# EAGLE library part IC_TSSOP_WB16 (library solderlessPCB v164)
10.8-V, 2-A dual H-bridge motor driver with current regulation 16-HTSSOP -40 to 85
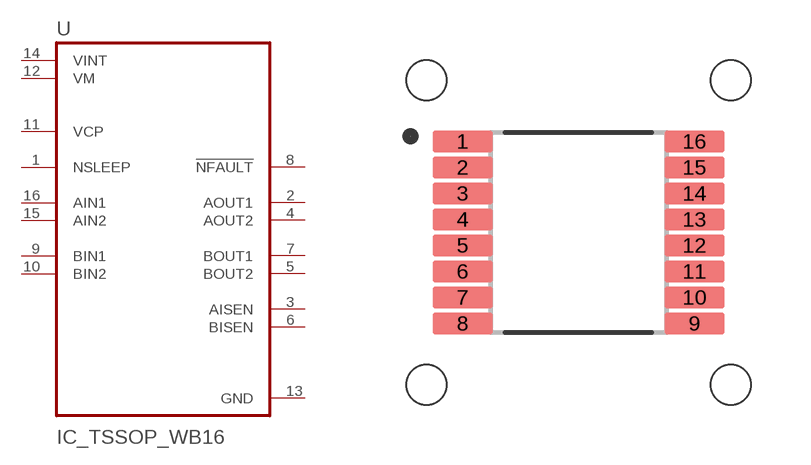
[diagram p7: symbol with the pads of TSSOP_WB16; footprint TSSOP_WB16]

Designator prefix U

## IC_TSSOP_WB16 (AVAILABILITY: Warning; DESCRIPTION: 10.8-V, 2-A dual H-bridge motor driver with current regulation 16-HTSSOP -40 to 85; DIGIKEY-PURCHASE-URL: https://snapeda.com/shop?store=DigiKey&id=377881; MANUFACTURER: Texas Instruments; MAXIMUM_PACKAGE_HEIGHT: 1.2mm; MOUSER-PURCHASE-URL: https://snapeda.com/shop?store=Mouser&id=377881; MP: DRV8833PWPR; PACKAGE: HTSSOP-16 Texas Instruments; PARTREV: E; PRICE: None; STANDARD: Manufacturer Recommendations; TEXAS_INSTRUMENTS-PURCHASE-URL: https://snapeda.com/shop?store=Texas+Instruments&id=377881)  [TSSOP_WB16]
1  NSLEEP  in
2  AOUT1  out
3  AISEN
4  AOUT2  out
5  BOUT2  out
6  BISEN
7  BOUT1  out
8  !NFAULT  out
9  BIN1  in
10  BIN2  in
11  VCP
12  VM  pwr
13  GND  pwr
14  VINT  pwr
15  AIN2  in
16  AIN1  in

## Footprint TSSOP_WB16 (pad centres in mm)
smd 1.5 x 0.55: 1 -2.9,2.275; 2 -2.9,1.625; 3 -2.9,0.975; 4 -2.9,0.325; 5 -2.9,-0.325; 6 -2.9,-0.975; 7 -2.9,-1.625; 8 -2.9,-2.275; 9 2.9,-2.275; 10 2.9,-1.625; 11 2.9,-0.975; 12 2.9,-0.325; 13 2.9,0.325; 14 2.9,0.975; 15 2.9,1.625; 16 2.9,2.275
hole 1 at -3.81,3.81
hole 1 at -3.81,-3.81
hole 1 at 3.81,-3.81
hole 1 at 3.81,3.81